# Altium footprint library 251-8086.PCBLIB: 1 footprints
Each footprint in its own frame and in the unit in brackets; x right, y up, seen from the top. Pads: shape width x height; smd on the part's side, far side on the other; paste and mask are expansions set on the pad; w line width, h text height; cw(c..) or ccw(c..) is an arc to the next point about the centre after c.
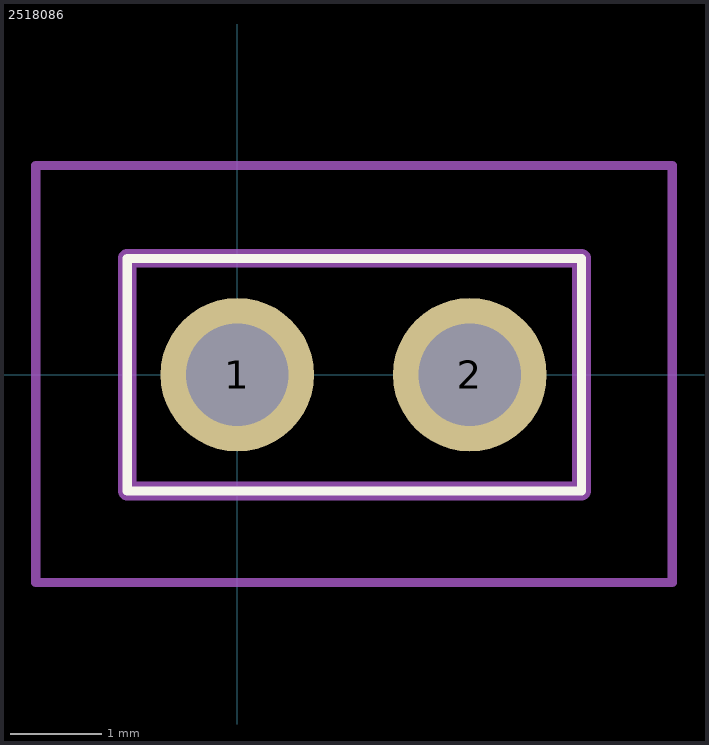
[diagram p0: the footprint, top view; thin cyan lines are the x and y axes]

## 2518086 [mil]
pads (2):
  round 66 hole 44: 1(0,0) 2(100,0)
Top Overlay:
  lines w4: -47.24,-50 148,-50 148,50 -47.24,50 -47.24,-50
Courtyard Bottom:
  lines w4: -86.61,-89.37 187,-89.37 187,90 -86.61,90 -86.61,-89.37
  lines w8: -47.24,-50 148,-50 148,50 -47.24,50 -47.24,-50